# EAGLE library part FUBARINO_SD (library SchmalzHausPublic)
Fubarino SD - Fubarino Web Site <http://www.fubarino.org/SD> A PIC32 based microcontroller board - chipKIT/MPIDE compatible. By Brian Schmalz of Schmalz Haus LLC and Rick Anderson of FUBAR Labs
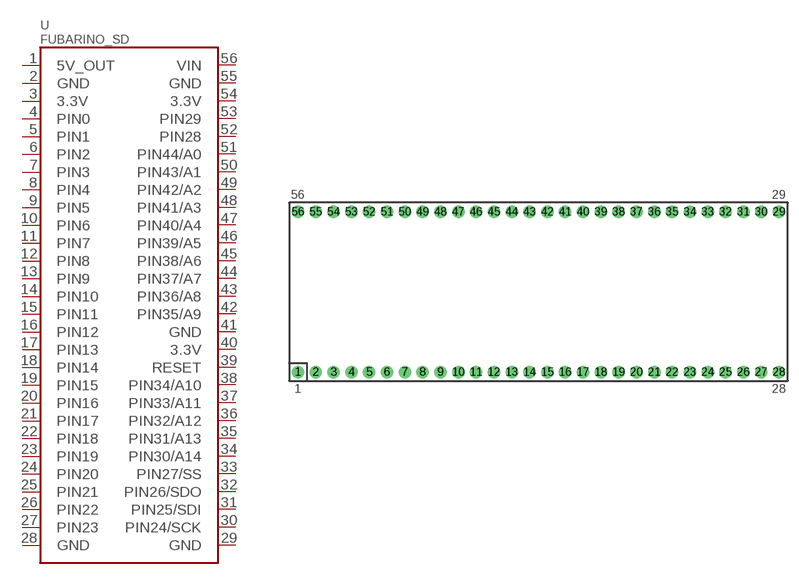
[diagram p4: symbol with the pads of FUBARINO_SD; footprint FUBARINO_SD]

Designator prefix -

## FUBARINO_SDFUBARINO_SD  [FUBARINO_SD]
1  5V_OUT
2  GND
3  3.3V
4  PIN0
5  PIN1
6  PIN2
7  PIN3
8  PIN4
9  PIN5
10  PIN6
11  PIN7
12  PIN8
13  PIN9
14  PIN10
15  PIN11
16  PIN12
17  PIN13
18  PIN14
19  PIN15
20  PIN16
21  PIN17
22  PIN18
23  PIN19
24  PIN20
25  PIN21
26  PIN22
27  PIN23
28  GND
29  GND
30  PIN24/SCK
31  PIN25/SDI
32  PIN26/SDO
33  PIN27/SS
34  PIN30/A14
35  PIN31/A13
36  PIN32/A12
37  PIN33/A11
38  PIN34/A10
39  RESET
40  3.3V
41  GND
42  PIN35/A9
43  PIN36/A8
44  PIN37/A7
45  PIN38/A6
46  PIN39/A5
47  PIN40/A4
48  PIN41/A3
49  PIN42/A2
50  PIN43/A1
51  PIN44/A0
52  PIN28
53  PIN29
54  3.3V
55  GND
56  VIN

## Footprint FUBARINO_SD (pad centres in mm)
drill 1 pad 1.778: 1 -34.29,-11.43; 2 -31.75,-11.43; 3 -29.21,-11.43; 4 -26.67,-11.43; 5 -24.13,-11.43; 6 -21.59,-11.43; 7 -19.05,-11.43; 8 -16.51,-11.43; 9 -13.97,-11.43; 10 -11.43,-11.43; 11 -8.89,-11.43; 12 -6.35,-11.43; 13 -3.81,-11.43; 14 -1.27,-11.43; 15 1.27,-11.43; 16 3.81,-11.43; 17 6.35,-11.43; 18 8.89,-11.43; 19 11.43,-11.43; 20 13.97,-11.43; 21 16.51,-11.43; 22 19.05,-11.43; 23 21.59,-11.43; 24 24.13,-11.43; 25 26.67,-11.43; 26 29.21,-11.43; 27 31.75,-11.43; 28 34.29,-11.43; 29 34.29,11.43; 30 31.75,11.43; 31 29.21,11.43; 32 26.67,11.43; 33 24.13,11.43; 34 21.59,11.43; 35 19.05,11.43; 36 16.51,11.43; 37 13.97,11.43; 38 11.43,11.43; 39 8.89,11.43; 40 6.35,11.43; 41 3.81,11.43; 42 1.27,11.43; 43 -1.27,11.43; 44 -3.81,11.43; 45 -6.35,11.43; 46 -8.89,11.43; 47 -11.43,11.43; 48 -13.97,11.43; 49 -16.51,11.43; 50 -19.05,11.43; 51 -21.59,11.43; 52 -24.13,11.43; 53 -26.67,11.43; 54 -29.21,11.43; 55 -31.75,11.43; 56 -34.29,11.43